# EAGLE library part IV-9 (library Library)
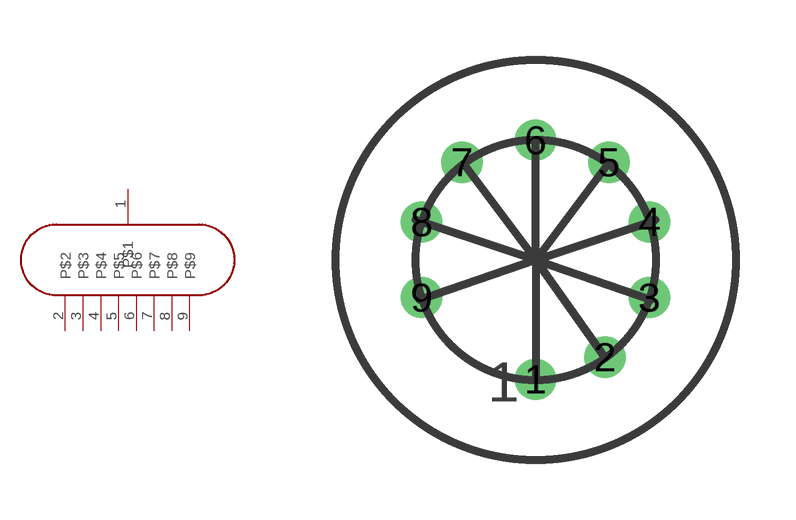
[diagram p0: symbol with the pads of IV-9; footprint IV-9]

Designator prefix -

## IV-9  [IV-9]
1  P$1
2  P$2
3  P$3
4  P$4
5  P$5
6  P$6
7  P$7
8  P$8
9  P$9

## Footprint IV-9 (pad centres in mm)
drill 0.525: 1 0,-2.994; 2 1.736,-2.441; 3 2.85,-0.943; 4 2.85,0.943; 5 1.836,2.441; 6 0,2.994; 7 -1.836,2.441; 8 -2.85,0.943; 9 -2.85,-0.943